# EAGLE library part FAN4860 (library fairchild)
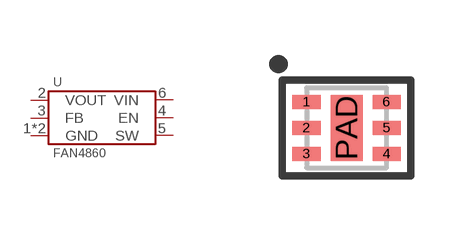
[diagram p1: symbol with the pads of UDFN-6; footprint UDFN-6]

Designator prefix U

## FAN4860UMP5X  [UDFN-6]
1  GND
2  VOUT
3  FB
4  EN
5  SW
6  VIN
PAD  GND

## Footprint UDFN-6 (pad centres in mm)
smd 0.7 x 0.35: 1 -1,0.65; 2 -1,0; 3 -1,-0.65; 4 1,-0.65; 5 1,0; 6 1,0.65
smd 0.8 x 1.65: PAD 0,0